# Altium schematic symbol library TDA2030双声道功放电路设计.SCHLIB: 8 symbols
Pins are listed as number, name and electrical type; pins without a type are passive.

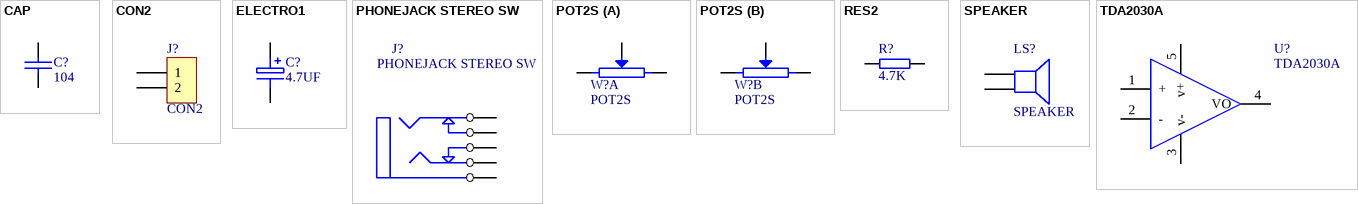
[diagram p0: symbols CAP to TDA2030A]

## CAP
designator C?, comment 104
Capacitor
footprint RAD0.1
footprint RAD0.2
footprint R/C0805
footprint R/C1206
footprint R/C0805
pins: 1, 2

## CON2
designator J?
Connector
footprint SIP2
footprint 5.08-S201
pins: 1, 2

## ELECTRO1
designator C?, comment 4.7UF
Electrolytic Capacitor
footprint RB.1/.2
footprint RB.2/.4
pins: 1, 2

## PHONEJACK STEREO SW
designator J?
footprint SPEAK
pins: 1 A, 2 B, 3 C, 4 D, 5 E

## POT2S
designator W?
footprint VR6
part A pins: 1, 2, 3
part B pins: 4, 5, 6

## RES2
designator R?, comment 4.7K
footprint AXIAL0.3
footprint AXIAL0.4
footprint AXIAL0.1
footprint AXIAL1.0
footprint R/C0805
footprint R/C0805
pins: 1, 2

## SPEAKER
designator LS?
footprint 5.08-S201
pins: 1, 2

## TDA2030A
designator U?
footprint LM1875
pins: 1 +, 2 -, 3 v-, 4 VO, 5 v+